# Altium footprint library MDM-25.PcbLib: 1 footprints
Each footprint in its own frame and in the unit in brackets; x right, y up, seen from the top. Pads: shape width x height; smd on the part's side, far side on the other; paste and mask are expansions set on the pad; w line width, h text height; cw(c..) or ccw(c..) is an arc to the next point about the centre after c.
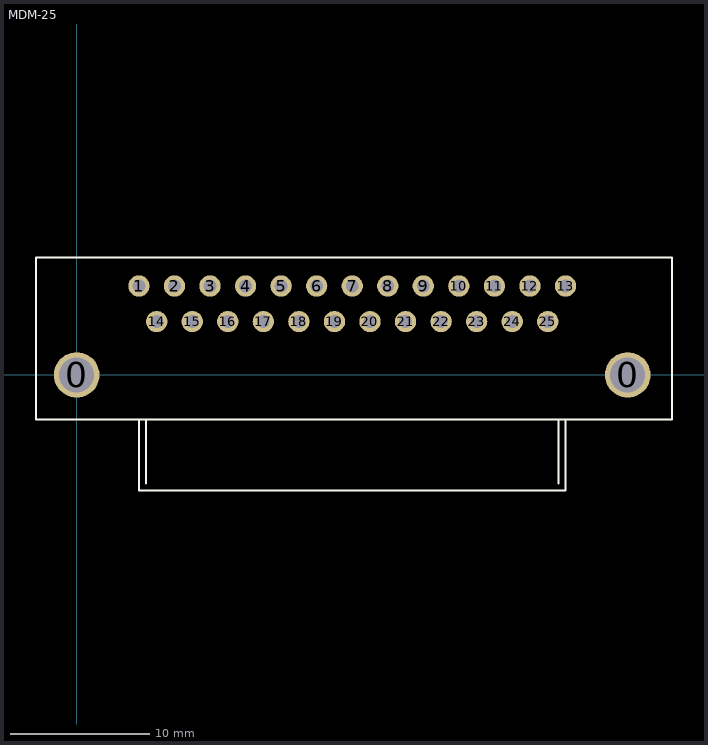
[diagram p0: the footprint, top view; thin cyan lines are the x and y axes]

## MDM-25 [mil]
pads (27):
  round 128 hole 98.43: 0(0,0) 0(1550,0)
  round 60 hole 36: 1(175,250) 2(275,250) 3(375,250) 4(475,250) 5(575,250) 6(675,250) 7(775,250) 8(875,250) 9(975,250) 10(1075,250) 11(1175,250) 12(1275,250) 13(1375,250) 14(225,150) 15(325,150) 16(425,150) 17(525,150) 18(625,150) 19(725,150) 20(825,150) 21(925,150) 22(1025,150) 23(1125,150) 24(1225,150) 25(1325,150)
TopOverlay:
  lines w6: 195,-305 195,-125 ; 575,-125 175,-125 175,-325 1375,-325 1375,-125 ; 1355,-305 1355,-125 ; -115,-125 -115,330 1675,330 1675,-125 -115,-125
3D body: height 275.59, standoff 0, extent -115,-120 1675,330